# Altium schematic symbol library e-puck3-camera_1.SCHLIB: 5 symbols
Pins are listed as number, name and electrical type; pins without a type are passive.

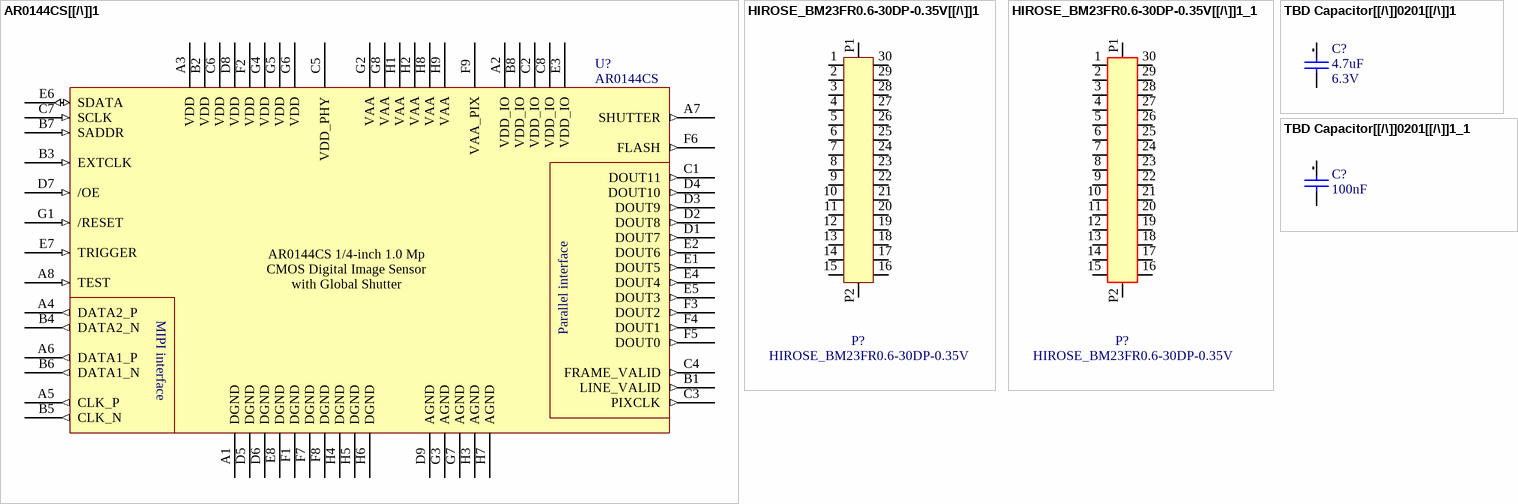
[diagram p0: symbols AR0144CS[[/\]]1 to TBD Capacitor[[/\]]0201[[/\]]1_1]

## AR0144CS[[/\]]1
designator U?, comment AR0144CS
AR0144CS 1/4-inch 1.0 Mp CMOS Digital Image Sensor with Global Shutter; Manufacturer: OnSemiconductor; Manufacturer Nr: ToDefine; Preference: 1; Currentie: CHF; Size: SOIC16; Footprint Acort: ToDefine; ComponentLink1Description: OnSemiconductor link; ComponentLink1URL: https://www.onsemi.com/PowerSolutions/search.do?searchType=others&query=AR0144; Supplier: Farnell; Supplier Nr: ToDefine; ROHS: True; DateLastUpdate: 2019-09-20 / 2:14:32 PM
footprint ONSEMI-ODCSP69_570BBV (ODCSP69 5.545x5.565, CASE 570BV, ISSUE B)
pins: A1 DGND (power) "Digital GND", A2 VDD_IO (power) "I/O supply power", A3 VDD (power) "Digital power", A4 DATA2_P (out) "MIPI serial data, lane 2, differential P", A5 CLK_P (out) "MIPI serial clock differential P", A6 DATA1_P (out) "MIPI serial data, lane 1, differential P", A7 SHUTTER (out) "Control of external mechanical shutter", A8 TEST (in) "Manufacturing test enable pin (connect to DGND)", B1 LINE_VALID (out) "Asserted when DOUT line data is valid", B2 VDD (power) "Digital power", B3 EXTCLK (in) "External input clock", B4 DATA2_N (out) "MIPI serial data, lane 2, differential N", B5 CLK_N (out) "MIPI serial clock differential N", B6 DATA1_N (out) "MIPI serial data, lane 1, differential N", B7 SADDR (in) "Two-Wire Serial address select", B8 VDD_IO (power) "I/O supply power", C1 DOUT11 (out) "Parallel pixel data output", C2 VDD_IO (power) "I/O supply power", C3 PIXCLK (out) "Pixel clock out. DOUT is valid on rising edge of this clock", C4 FRAME_VALID (out) "Asserted when DOUT frame data is valid", C5 VDD_PHY (power) "MIPI power supply (1.2 V)", C6 VDD (power) "Digital power", C7 SCLK (in) "Two-Wire Serial clock input", C8 VDD_IO (power) "I/O supply power", D1 DOUT7 (out) "Parallel pixel data output", D2 DOUT8 (out) "Parallel pixel data output", D3 DOUT9 (out) "Parallel pixel data output", D4 DOUT10 (out) "Parallel pixel data output", D5 DGND (power) "Digital GND", D6 DGND (power) "Digital GND", D7 /OE (in) "Output enable (active LOW)", D8 VDD (power) "Digital power", D9 AGND (power) "Analog GND", E1 DOUT5 (out) "Parallel pixel data output", E2 DOUT6 (out) "Parallel pixel data output", E3 VDD_IO (power) "I/O supply power", E4 DOUT4 (out) "Parallel pixel data output", E5 DOUT3 (out) "Parallel pixel data output", E6 SDATA (io) "Two-Wire Serial data I/O", E7 TRIGGER (in) "Exposure synchronization input", E8 DGND (power) "Digital GND", F1 DGND (power) "Digital GND", F2 VDD (power) "Digital power", F3 DOUT2 (out) "Parallel pixel data output", F4 DOUT1 (out) "Parallel pixel data output", F5 DOUT0 (out) "Parallel pixel data output", F6 FLASH (out) "Control signal to drive external light sources", F7 DGND (power) "Digital GND", F8 DGND (power) "Digital GND", F9 VAA_PIX (power) "Pixel power", G1 /RESET (in) "Asynchronous reset (active LOW). All settings are restored to factory", G2 VAA (power) "Analog Power", G3 AGND (power) "Analog GND", G4 VDD (power) "Digital power", G5 VDD (power) "Digital power", G6 VDD (power) "Digital power", G7 AGND (power) "Analog GND", G8 VAA (power) "Analog Power", H1 VAA (power) "Analog Power", H2 VAA (power) "Analog Power", H3 AGND (power) "Analog GND", H4 DGND (power) "Digital GND", H5 DGND (power) "Digital GND", H6 DGND (power) "Digital GND", H7 AGND (power) "Analog GND", H8 VAA (power) "Analog Power", H9 VAA (power) "Analog Power"
text: AR0144CS 1/4‐inch 1.0 Mp CMOS Digital Image Sensor with Global Shutter; MIPI interface; Parallel interface

## HIROSE_BM23FR0.6-30DP-0.35V[[/\]]1
designator P?, comment HIROSE_BM23FR0.6-30DP-0.35V
2 x 15 Hirose header BM23FR0.6 Serie, 0.35 pitch, SMD, Mate at 0.6mm with receptacle, 0.3A signal contacts; Preference: 1; Currentie: CHF; Footprint Acort: ToDefine; ComponentLink1Description: Supplier link; ComponentLink1URL: https://www.hirose.com/product/series/BM23FR?lang=en; Supplier: Mouser; Supplier Nr: 798-3FR0630DP035V895; Manufacturer: Hirose; Manufacturer Nr: BM23FR0.6-30DP-0.35V; ROHS: True; Type: SMD; Orientation: Vertical; DateLastUpdate: 2019-09-24 / 11:10:53 AM; Quant_1: 1; Price_1: 1.03
footprint HIROSE_BM23FR0.6-30DP-0.35V
pins: 1, 2, 3, 4, 5, 6, 7, 8, 9, 10, 11, 12, 13, 14, 15, 16, 17, 18, 19, 20, 21, 22, 23, 24, 25, 26, 27, 28, 29, 30, P1, P2

## HIROSE_BM23FR0.6-30DP-0.35V[[/\]]1_1
designator P?, comment HIROSE_BM23FR0.6-30DP-0.35V
2 x 15 Hirose header BM23FR0.6 Serie, 0.35 pitch, SMD, Mate at 0.6mm with receptacle, 0.3A signal contacts; Preference: 1; Currentie: CHF; Footprint Acort: ToDefine; ComponentLink1Description: Supplier link; ComponentLink1URL: https://www.hirose.com/product/series/BM23FR?lang=en; Supplier: Mouser; Supplier Nr: 798-3FR0630DP035V895; Manufacturer: Hirose; Manufacturer Nr: BM23FR0.6-30DP-0.35V; ROHS: True; Type: SMD; Orientation: Vertical; DateLastUpdate: 2019-09-24 / 11:10:53 AM; Quant_1: 1; Price_1: 1.03
footprint HIROSE_BM23FR0.6-30DP-0.35V
pins: 1, 2, 3, 4, 5, 6, 7, 8, 9, 10, 11, 12, 13, 14, 15, 16, 17, 18, 19, 20, 21, 22, 23, 24, 25, 26, 27, 28, 29, 30, P1, P2

## TBD Capacitor[[/\]]0201[[/\]]1
designator C?, comment 4.7uF  Voltage Rating: 6.3V
Capacitor TBD 0201; Manufacturer: Murata; Manufacturer Part Number: GRM035R60J475ME15D; Preference: 1; Currentie: CHF; Tolerance: 20%; Dielectric: X5R; Size: 0201; Footprint Acort: 0201; ROHS: True; DateLastUpdate: 2018-10-19 / 8:59:52 AM; Supplier 1: Digi-Key; Supplier Part Number 1: 490-13230-1-ND; Stock 1: 1746304; Pricing 1: 1=0.44000, 10=0.30700, 100=0.18420, 500=0.13818, 1000=0.11668, 2500=0.11054, 5000=0.10440 (USD); Mount: Surface Mount; Case/Package: 0201; Case Code (Metric): 0603; Case Code (Imperial): 0201; Min Operating Temperature: -55°C; Max Operating Temperature: 85°C; Packaging: Tape and Reel; Capacitance: 4.7uF; Voltage Rating (DC): 6.3V; Length: 0.024inch; Width: 0.012inch; Thickness: 0.022inch; ComponentLink1URL: http://search.murata.co.jp/Ceramy/image/img/A01X/G101/ENG/GRM035R60J475ME15-01.pdf?src-supplier=Digi-Key; ComponentLink1Description: http://search.murata.co.jp/Ceramy/image/img/A01X/G101/ENG/GRM035R60J475ME15-01.pdf?src-supplier=Digi-Key
footprint CAPC0201(0603)33_L
footprint CAPC0201(0603)33_M
footprint CAPC0201(0603)33_N
pins: 1, 2

## TBD Capacitor[[/\]]0201[[/\]]1_1
designator C?, comment 100nF
Capacitor TBD 0201; Preference: 1; Currentie: CHF; Size: 0201; Footprint Acort: 0201; ROHS: True; DateLastUpdate: 2018-10-19 / 8:59:52 AM
footprint CAPC0201(0603)33_L
footprint CAPC0201(0603)33_M
footprint CAPC0201(0603)33_N
pins: 1, 2